# Altium schematic symbol library POT-POT-3.SchLib: 1 symbol
Pins are listed as number, name and electrical type; pins without a type are passive.

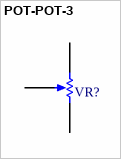
[diagram p0: symbol POT-POT-3]

## POT-POT-3
designator VR?
pins: 1 TOP "CCW", 2 S "Slider", 3 BOT "CW"
1 alternate drawing of the same symbol